# Altium integrated library Analog Devices Operational Amplifiers.IntLib: 2102 symbols (part 12 of 70)
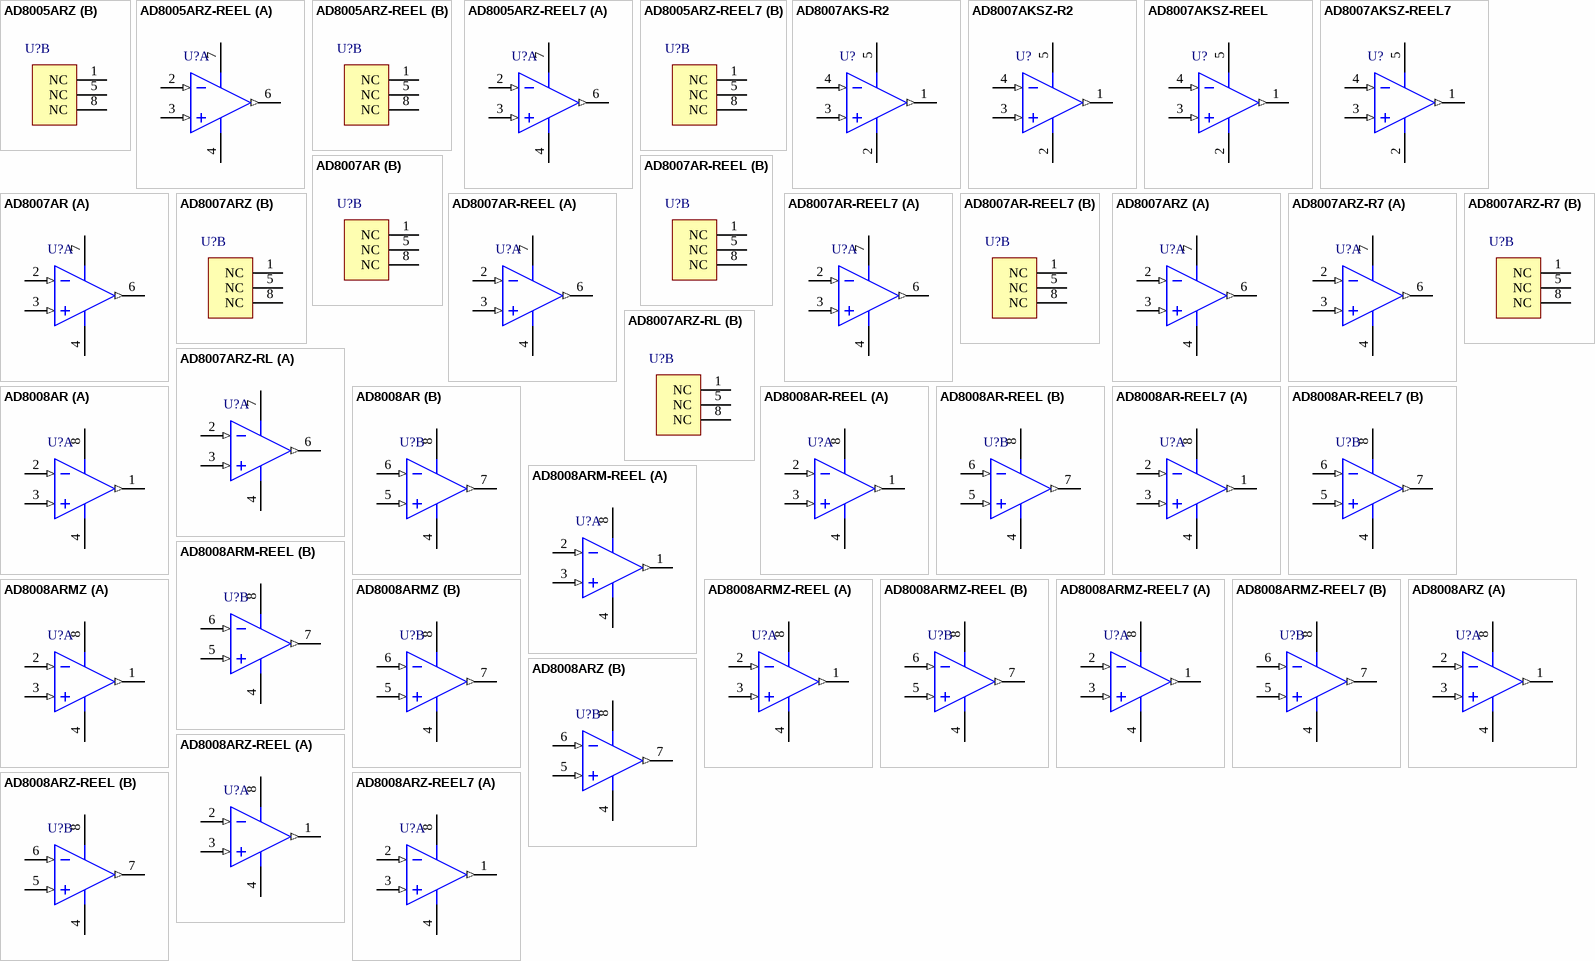
[diagram p125: symbols AD8005ARZ to AD8008ARZ-REEL7]

## AD8008AR
designator U?
Double Channel Low Power Operational Amplifier, 650 MHz BW, 1 KV/us SR, Industrial, 8-pin SOIC (R-8), Tube; Generic Part Number: AD8008; Manufacturer: Analog Devices; PartNumber: AD8008AR; Amplifiers Per Package: 2; Input Bias Current: 4uA; Input Offset Voltage: 500uV; Iq/Amp: 10.2mA; Slew Rate: 1KV/us; Small Signal Bandwidth: 650MHz; V Span Max: 12V; V Span Min: 5V; DatasheetVersion: Rev. E; PackageVersion: 060506-A; PackageReference: R-8; PackageDescription: 8-Pin Standard Small Outline Package, Body 3.9 x 4.9 mm, Pitch 1.27 mm; Supplier 1: Digi-Key; Supplier Part Number 1: AD8008AR-ND; Mounting Technology: Surface Mount; Code_JEDEC: MS-012-AA; ComponentLink1Description: Manufacturer URL; ComponentLink1URL: http://www.analog.com/en/index.html; ComponentLink2Description: Datasheet; ComponentLink2URL: http://www.analog.com/static/imported-files/data_sheets/AD8007_8008.pdf; ComponentLink3Description: Package Specification; ComponentLink3URL: http://www.analog.com/static/imported-files/packages/PKG_PDF/SOIC_Narrow%20(R)/R_8.pdf
footprint ADI-R-8_N (SOIC, 8-Leads, Body 4.9x3.9mm, Pitch 1.27mm, IPC Medium Density)
footprint ADI-R-8_L (SOIC, 8-Leads, Body 4.9x3.9mm, Pitch 1.27mm, IPC High Density)
footprint ADI-R-8_M (SOIC, 8-Leads, Body 4.9x3.9mm, Pitch 1.27mm, IPC Low Density)
pins on every part: 4 -VS (power), 8 +VS (power)
part A pins: 1 VOUT 1 (out), 2 -IN 1 (in), 3 +IN 1 (in)
part B pins: 5 +IN 2 (in), 6 -IN 2 (in), 7 VOUT 2 (out)

## AD8008AR-REEL
designator U?
Double Channel Low Power Operational Amplifier, 650 MHz BW, 1 KV/us SR, Industrial, 8-pin SOIC (R-8), Reel; Generic Part Number: AD8008; Manufacturer: Analog Devices; PartNumber: AD8008AR-REEL; Amplifiers Per Package: 2; Input Bias Current: 4uA; Input Offset Voltage: 500uV; Iq/Amp: 10.2mA; Slew Rate: 1KV/us; Small Signal Bandwidth: 650MHz; V Span Max: 12V; V Span Min: 5V; DatasheetVersion: Rev. E; PackageVersion: 060506-A; PackageReference: R-8; PackageDescription: 8-Pin Standard Small Outline Package, Body 3.9 x 4.9 mm, Pitch 1.27 mm; Supplier 1: Digi-Key; Supplier Part Number 1: AD8008AR-REEL-ND; Mounting Technology: Surface Mount; Code_JEDEC: MS-012-AA; ComponentLink1Description: Manufacturer URL; ComponentLink1URL: http://www.analog.com/en/index.html; ComponentLink2Description: Datasheet; ComponentLink2URL: http://www.analog.com/static/imported-files/data_sheets/AD8007_8008.pdf; ComponentLink3Description: Package Specification; ComponentLink3URL: http://www.analog.com/static/imported-files/packages/PKG_PDF/SOIC_Narrow%20(R)/R_8.pdf
footprint ADI-R-8_N (SOIC, 8-Leads, Body 4.9x3.9mm, Pitch 1.27mm, IPC Medium Density)
footprint ADI-R-8_L (SOIC, 8-Leads, Body 4.9x3.9mm, Pitch 1.27mm, IPC High Density)
footprint ADI-R-8_M (SOIC, 8-Leads, Body 4.9x3.9mm, Pitch 1.27mm, IPC Low Density)
pins on every part: 4 -VS (power), 8 +VS (power)
part A pins: 1 VOUT 1 (out), 2 -IN 1 (in), 3 +IN 1 (in)
part B pins: 5 +IN 2 (in), 6 -IN 2 (in), 7 VOUT 2 (out)

## AD8008AR-REEL7
designator U?
Double Channel Low Power Operational Amplifier, 650 MHz BW, 1 KV/us SR, Industrial, 8-pin SOIC (R-8), Reel; Generic Part Number: AD8008; Manufacturer: Analog Devices; PartNumber: AD8008AR-REEL7; Amplifiers Per Package: 2; Input Bias Current: 4uA; Input Offset Voltage: 500uV; Iq/Amp: 10.2mA; Slew Rate: 1KV/us; Small Signal Bandwidth: 650MHz; V Span Max: 12V; V Span Min: 5V; DatasheetVersion: Rev. E; PackageVersion: 060506-A; PackageReference: R-8; PackageDescription: 8-Pin Standard Small Outline Package, Body 3.9 x 4.9 mm, Pitch 1.27 mm; Supplier 1: Digi-Key; Supplier Part Number 1: AD8008AR-REEL7-ND; Mounting Technology: Surface Mount; Code_JEDEC: MS-012-AA; ComponentLink1Description: Manufacturer URL; ComponentLink1URL: http://www.analog.com/en/index.html; ComponentLink2Description: Datasheet; ComponentLink2URL: http://www.analog.com/static/imported-files/data_sheets/AD8007_8008.pdf; ComponentLink3Description: Package Specification; ComponentLink3URL: http://www.analog.com/static/imported-files/packages/PKG_PDF/SOIC_Narrow%20(R)/R_8.pdf
footprint ADI-R-8_N (SOIC, 8-Leads, Body 4.9x3.9mm, Pitch 1.27mm, IPC Medium Density)
footprint ADI-R-8_L (SOIC, 8-Leads, Body 4.9x3.9mm, Pitch 1.27mm, IPC High Density)
footprint ADI-R-8_M (SOIC, 8-Leads, Body 4.9x3.9mm, Pitch 1.27mm, IPC Low Density)
pins on every part: 4 -VS (power), 8 +VS (power)
part A pins: 1 VOUT 1 (out), 2 -IN 1 (in), 3 +IN 1 (in)
part B pins: 5 +IN 2 (in), 6 -IN 2 (in), 7 VOUT 2 (out)

## AD8008ARM-REEL
designator U?
Double Channel Low Power Operational Amplifier, 650 MHz BW, 1 KV/us SR, Industrial, 8-pin SOP (RM-8), Reel; Generic Part Number: AD8008; Manufacturer: Analog Devices; PartNumber: AD8008ARM-REEL; Amplifiers Per Package: 2; Input Bias Current: 4uA; Input Offset Voltage: 500uV; Iq/Amp: 10.2mA; Slew Rate: 1KV/us; Small Signal Bandwidth: 650MHz; V Span Max: 12V; V Span Min: 5V; DatasheetVersion: Rev. E; PackageReference: RM-8; PackageDescription: 8-Pin Mini Small Outline Package, Body 3 x 3 mm, Pitch 0.65 mm; Supplier 1: Digi-Key; Supplier Part Number 1: AD8008ARM-REEL-ND; Mounting Technology: Surface Mount; Code_JEDEC: MO-187-AA; ComponentLink1Description: Manufacturer URL; ComponentLink1URL: http://www.analog.com/en/index.html; ComponentLink2Description: Datasheet; ComponentLink2URL: http://www.analog.com/static/imported-files/data_sheets/AD8007_8008.pdf; ComponentLink3Description: Package Specification; ComponentLink3URL: http://www.analog.com/static/imported-files/packages/PKG_PDF/MSOP%28RM%29/RM_8.pdf
footprint ADI-RM-8_N (SOP, 8-Leads, Body 3x3mm, Pitch 0.65mm, IPC Medium Density)
footprint ADI-RM-8_L (SOP, 8-Leads, Body 3x3mm, Pitch 0.65mm, IPC High Density)
footprint ADI-RM-8_M (SOP, 8-Leads, Body 3x3mm, Pitch 0.65mm, IPC Low Density)
pins on every part: 4 -VS (power), 8 +VS (power)
part A pins: 1 VOUT 1 (out), 2 -IN 1 (in), 3 +IN 1 (in)
part B pins: 5 +IN 2 (in), 6 -IN 2 (in), 7 VOUT 2 (out)

## AD8008ARMZ
designator U?
Double Channel Low Power Operational Amplifier, 650 MHz BW, 1 KV/us SR, Industrial, 8-pin SOP (RM-8), Tube; Generic Part Number: AD8008; Manufacturer: Analog Devices; PartNumber: AD8008ARMZ; Amplifiers Per Package: 2; Input Bias Current: 4uA; Input Offset Voltage: 500uV; Iq/Amp: 10.2mA; Slew Rate: 1KV/us; Small Signal Bandwidth: 650MHz; V Span Max: 12V; V Span Min: 5V; DatasheetVersion: Rev. E; PackageReference: RM-8; PackageDescription: 8-Pin Mini Small Outline Package, Body 3 x 3 mm, Pitch 0.65 mm; Supplier 1: Digi-Key; Supplier Part Number 1: AD8008ARMZ-ND; Supplier 2: Newark; Supplier Part Number 2: 59K6160; Mounting Technology: Surface Mount; Code_JEDEC: MO-187-AA; ComponentLink1Description: Manufacturer URL; ComponentLink1URL: http://www.analog.com/en/index.html; ComponentLink2Description: Datasheet; ComponentLink2URL: http://www.analog.com/static/imported-files/data_sheets/AD8007_8008.pdf; ComponentLink3Description: Package Specification; ComponentLink3URL: http://www.analog.com/static/imported-files/packages/PKG_PDF/MSOP%28RM%29/RM_8.pdf
footprint ADI-RM-8_N (SOP, 8-Leads, Body 3x3mm, Pitch 0.65mm, IPC Medium Density)
footprint ADI-RM-8_L (SOP, 8-Leads, Body 3x3mm, Pitch 0.65mm, IPC High Density)
footprint ADI-RM-8_M (SOP, 8-Leads, Body 3x3mm, Pitch 0.65mm, IPC Low Density)
pins on every part: 4 -VS (power), 8 +VS (power)
part A pins: 1 VOUT 1 (out), 2 -IN 1 (in), 3 +IN 1 (in)
part B pins: 5 +IN 2 (in), 6 -IN 2 (in), 7 VOUT 2 (out)

## AD8008ARMZ-REEL
designator U?
Double Channel Low Power Operational Amplifier, 650 MHz BW, 1 KV/us SR, Industrial, 8-pin SOP (RM-8), Reel; Generic Part Number: AD8008; Manufacturer: Analog Devices; PartNumber: AD8008ARMZ-REEL; Amplifiers Per Package: 2; Input Bias Current: 4uA; Input Offset Voltage: 500uV; Iq/Amp: 10.2mA; Slew Rate: 1KV/us; Small Signal Bandwidth: 650MHz; V Span Max: 12V; V Span Min: 5V; DatasheetVersion: Rev. E; PackageReference: RM-8; PackageDescription: 8-Pin Mini Small Outline Package, Body 3 x 3 mm, Pitch 0.65 mm; Supplier 1: Digi-Key; Supplier Part Number 1: AD8008ARMZ-REEL-ND; Mounting Technology: Surface Mount; Code_JEDEC: MO-187-AA; ComponentLink1Description: Manufacturer URL; ComponentLink1URL: http://www.analog.com/en/index.html; ComponentLink2Description: Datasheet; ComponentLink2URL: http://www.analog.com/static/imported-files/data_sheets/AD8007_8008.pdf; ComponentLink3Description: Package Specification; ComponentLink3URL: http://www.analog.com/static/imported-files/packages/PKG_PDF/MSOP%28RM%29/RM_8.pdf
footprint ADI-RM-8_N (SOP, 8-Leads, Body 3x3mm, Pitch 0.65mm, IPC Medium Density)
footprint ADI-RM-8_L (SOP, 8-Leads, Body 3x3mm, Pitch 0.65mm, IPC High Density)
footprint ADI-RM-8_M (SOP, 8-Leads, Body 3x3mm, Pitch 0.65mm, IPC Low Density)
pins on every part: 4 -VS (power), 8 +VS (power)
part A pins: 1 VOUT 1 (out), 2 -IN 1 (in), 3 +IN 1 (in)
part B pins: 5 +IN 2 (in), 6 -IN 2 (in), 7 VOUT 2 (out)

## AD8008ARMZ-REEL7
designator U?
Double Channel Low Power Operational Amplifier, 650 MHz BW, 1 KV/us SR, Industrial, 8-pin SOP (RM-8), Reel; Generic Part Number: AD8008; Manufacturer: Analog Devices; PartNumber: AD8008ARMZ-REEL7; Amplifiers Per Package: 2; Input Bias Current: 4uA; Input Offset Voltage: 500uV; Iq/Amp: 10.2mA; Slew Rate: 1KV/us; Small Signal Bandwidth: 650MHz; V Span Max: 12V; V Span Min: 5V; DatasheetVersion: Rev. E; PackageReference: RM-8; PackageDescription: 8-Pin Mini Small Outline Package, Body 3 x 3 mm, Pitch 0.65 mm; Supplier 1: Digi-Key; Supplier Part Number 1: AD8008ARMZ-REEL7-ND; Mounting Technology: Surface Mount; Code_JEDEC: MO-187-AA; ComponentLink1Description: Manufacturer URL; ComponentLink1URL: http://www.analog.com/en/index.html; ComponentLink2Description: Datasheet; ComponentLink2URL: http://www.analog.com/static/imported-files/data_sheets/AD8007_8008.pdf; ComponentLink3Description: Package Specification; ComponentLink3URL: http://www.analog.com/static/imported-files/packages/PKG_PDF/MSOP%28RM%29/RM_8.pdf
footprint ADI-RM-8_N (SOP, 8-Leads, Body 3x3mm, Pitch 0.65mm, IPC Medium Density)
footprint ADI-RM-8_L (SOP, 8-Leads, Body 3x3mm, Pitch 0.65mm, IPC High Density)
footprint ADI-RM-8_M (SOP, 8-Leads, Body 3x3mm, Pitch 0.65mm, IPC Low Density)
pins on every part: 4 -VS (power), 8 +VS (power)
part A pins: 1 VOUT 1 (out), 2 -IN 1 (in), 3 +IN 1 (in)
part B pins: 5 +IN 2 (in), 6 -IN 2 (in), 7 VOUT 2 (out)

## AD8008ARZ
designator U?
Double Channel Low Power Operational Amplifier, 650 MHz BW, 1 KV/us SR, Industrial, 8-pin SOIC (R-8), Tube; Generic Part Number: AD8008; Manufacturer: Analog Devices; PartNumber: AD8008ARZ; Amplifiers Per Package: 2; Input Bias Current: 4uA; Input Offset Voltage: 500uV; Iq/Amp: 10.2mA; Slew Rate: 1KV/us; Small Signal Bandwidth: 650MHz; V Span Max: 12V; V Span Min: 5V; DatasheetVersion: Rev. E; PackageVersion: 060506-A; PackageReference: R-8; PackageDescription: 8-Pin Standard Small Outline Package, Body 3.9 x 4.9 mm, Pitch 1.27 mm; Supplier 1: Digi-Key; Supplier Part Number 1: AD8008ARZ-ND; Supplier 2: Farnell; Supplier Part Number 2: 8621470; Supplier 3: Newark; Supplier Part Number 3: 19M0913; Mounting Technology: Surface Mount; Code_JEDEC: MS-012-AA; ComponentLink1Description: Manufacturer URL; ComponentLink1URL: http://www.analog.com/en/index.html; ComponentLink2Description: Datasheet; ComponentLink2URL: http://www.analog.com/static/imported-files/data_sheets/AD8007_8008.pdf; ComponentLink3Description: Package Specification; ComponentLink3URL: http://www.analog.com/static/imported-files/packages/PKG_PDF/SOIC_Narrow%20(R)/R_8.pdf
footprint ADI-R-8_N (SOIC, 8-Leads, Body 4.9x3.9mm, Pitch 1.27mm, IPC Medium Density)
footprint ADI-R-8_L (SOIC, 8-Leads, Body 4.9x3.9mm, Pitch 1.27mm, IPC High Density)
footprint ADI-R-8_M (SOIC, 8-Leads, Body 4.9x3.9mm, Pitch 1.27mm, IPC Low Density)
pins on every part: 4 -VS (power), 8 +VS (power)
part A pins: 1 VOUT 1 (out), 2 -IN 1 (in), 3 +IN 1 (in)
part B pins: 5 +IN 2 (in), 6 -IN 2 (in), 7 VOUT 2 (out)

## AD8008ARZ-REEL
designator U?
Double Channel Low Power Operational Amplifier, 650 MHz BW, 1 KV/us SR, Industrial, 8-pin SOIC (R-8), Reel; Generic Part Number: AD8008; Manufacturer: Analog Devices; PartNumber: AD8008ARZ-REEL; Amplifiers Per Package: 2; Input Bias Current: 4uA; Input Offset Voltage: 500uV; Iq/Amp: 10.2mA; Slew Rate: 1KV/us; Small Signal Bandwidth: 650MHz; V Span Max: 12V; V Span Min: 5V; DatasheetVersion: Rev. E; PackageVersion: 060506-A; PackageReference: R-8; PackageDescription: 8-Pin Standard Small Outline Package, Body 3.9 x 4.9 mm, Pitch 1.27 mm; Supplier 1: Digi-Key; Supplier Part Number 1: AD8008ARZ-REEL-ND; Mounting Technology: Surface Mount; Code_JEDEC: MS-012-AA; ComponentLink1Description: Manufacturer URL; ComponentLink1URL: http://www.analog.com/en/index.html; ComponentLink2Description: Datasheet; ComponentLink2URL: http://www.analog.com/static/imported-files/data_sheets/AD8007_8008.pdf; ComponentLink3Description: Package Specification; ComponentLink3URL: http://www.analog.com/static/imported-files/packages/PKG_PDF/SOIC_Narrow%20(R)/R_8.pdf
footprint ADI-R-8_N (SOIC, 8-Leads, Body 4.9x3.9mm, Pitch 1.27mm, IPC Medium Density)
footprint ADI-R-8_L (SOIC, 8-Leads, Body 4.9x3.9mm, Pitch 1.27mm, IPC High Density)
footprint ADI-R-8_M (SOIC, 8-Leads, Body 4.9x3.9mm, Pitch 1.27mm, IPC Low Density)
pins on every part: 4 -VS (power), 8 +VS (power)
part A pins: 1 VOUT 1 (out), 2 -IN 1 (in), 3 +IN 1 (in)
part B pins: 5 +IN 2 (in), 6 -IN 2 (in), 7 VOUT 2 (out)

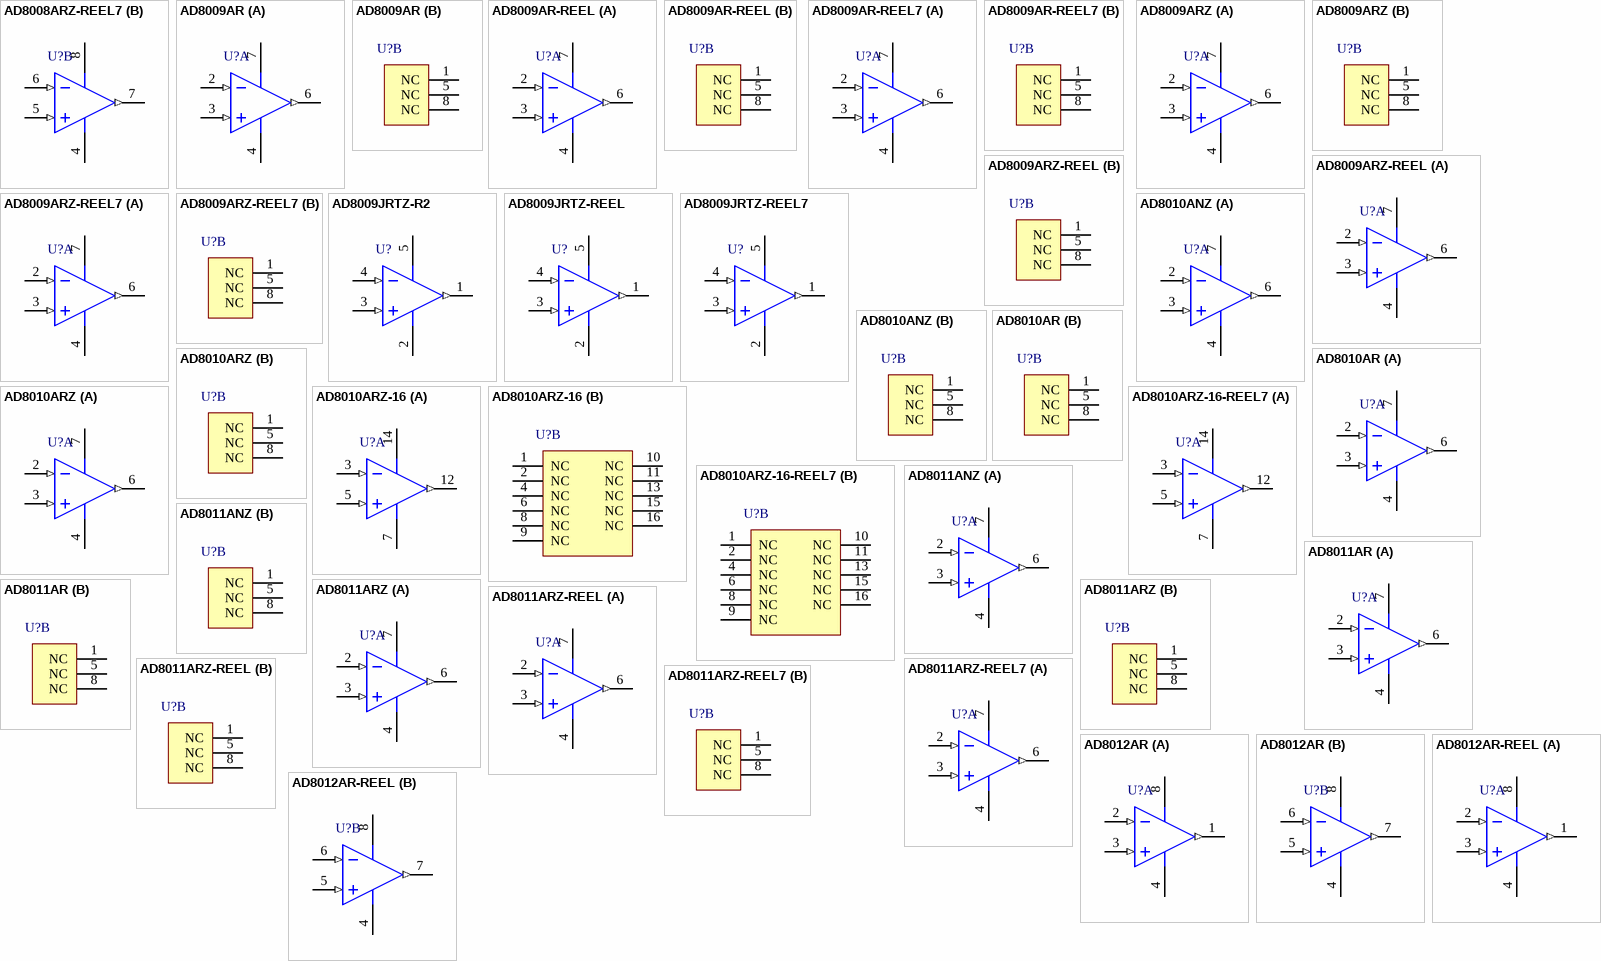
[diagram p18: symbols AD8008ARZ-REEL7 to AD8012AR-REEL]

## AD8008ARZ-REEL7
designator U?
Double Channel Low Power Operational Amplifier, 650 MHz BW, 1 KV/us SR, Industrial, 8-pin SOIC (R-8), Reel; Generic Part Number: AD8008; Manufacturer: Analog Devices; PartNumber: AD8008ARZ-REEL7; Amplifiers Per Package: 2; Input Bias Current: 4uA; Input Offset Voltage: 500uV; Iq/Amp: 10.2mA; Slew Rate: 1KV/us; Small Signal Bandwidth: 650MHz; V Span Max: 12V; V Span Min: 5V; DatasheetVersion: Rev. E; PackageVersion: 060506-A; PackageReference: R-8; PackageDescription: 8-Pin Standard Small Outline Package, Body 3.9 x 4.9 mm, Pitch 1.27 mm; Supplier 1: Digi-Key; Supplier Part Number 1: AD8008ARZ-REEL7-ND; Mounting Technology: Surface Mount; Code_JEDEC: MS-012-AA; ComponentLink1Description: Manufacturer URL; ComponentLink1URL: http://www.analog.com/en/index.html; ComponentLink2Description: Datasheet; ComponentLink2URL: http://www.analog.com/static/imported-files/data_sheets/AD8007_8008.pdf; ComponentLink3Description: Package Specification; ComponentLink3URL: http://www.analog.com/static/imported-files/packages/PKG_PDF/SOIC_Narrow%20(R)/R_8.pdf
footprint ADI-R-8_N (SOIC, 8-Leads, Body 4.9x3.9mm, Pitch 1.27mm, IPC Medium Density)
footprint ADI-R-8_L (SOIC, 8-Leads, Body 4.9x3.9mm, Pitch 1.27mm, IPC High Density)
footprint ADI-R-8_M (SOIC, 8-Leads, Body 4.9x3.9mm, Pitch 1.27mm, IPC Low Density)
pins on every part: 4 -VS (power), 8 +VS (power)
part A pins: 1 VOUT 1 (out), 2 -IN 1 (in), 3 +IN 1 (in)
part B pins: 5 +IN 2 (in), 6 -IN 2 (in), 7 VOUT 2 (out)

## AD8009AR
designator U?
Single Channel Wide Bandwidth Operational Amplifier, 1 GHz BW, 5.5 KV/us SR, Industrial, 8-pin SOIC (R-8), Tube; Generic Part Number: AD8009; Manufacturer: Analog Devices; PartNumber: AD8009AR; Amplifiers Per Package: 1; Input Bias Current: 50uA; Input Offset Voltage: 2mV; Iq/Amp: 16mA; Small Signal Bandwidth: 1GHz; V Span Max: 12V; V Span Min: 5V; DatasheetVersion: Rev. F; PackageVersion: 060506-A; PackageReference: R-8; PackageDescription: 8-Pin Standard Small Outline Package, Body 3.9 x 4.9 mm, Pitch 1.27 mm; Supplier 1: Digi-Key; Supplier Part Number 1: AD8009AR-ND; Packing: Tube; Slew Rate: 5.5KV/us; Mounting Technology: Surface Mount; Code_JEDEC: MS-012-AA; ComponentLink1Description: Manufacturer URL; ComponentLink1URL: http://www.analog.com/en/index.html; ComponentLink2Description: Datasheet; ComponentLink2URL: http://www.analog.com/static/imported-files/data_sheets/AD8009.pdf; ComponentLink3Description: Package Specification; ComponentLink3URL: http://www.analog.com/static/imported-files/packages/PKG_PDF/SOIC_Narrow%20(R)/R_8.pdf
footprint ADI-R-8_N (SOIC, 8-Leads, Body 4.9x3.9mm, Pitch 1.27mm, IPC Medium Density)
footprint ADI-R-8_L (SOIC, 8-Leads, Body 4.9x3.9mm, Pitch 1.27mm, IPC High Density)
footprint ADI-R-8_M (SOIC, 8-Leads, Body 4.9x3.9mm, Pitch 1.27mm, IPC Low Density)
part A pins: 2 -IN (in), 3 +IN (in), 4 -VS (power), 6 OUT (out), 7 +VS (power)
part B pins: 1 NC, 5 NC, 8 NC

## AD8009AR-REEL
designator U?
Single Channel Wide Bandwidth Operational Amplifier, 1 GHz BW, 5.5 KV/us SR, Industrial, 8-pin SOIC (R-8), Reel; Generic Part Number: AD8009; Manufacturer: Analog Devices; PartNumber: AD8009AR-REEL; Amplifiers Per Package: 1; Input Bias Current: 50uA; Input Offset Voltage: 2mV; Iq/Amp: 16mA; Small Signal Bandwidth: 1GHz; V Span Max: 12V; V Span Min: 5V; DatasheetVersion: Rev. F; PackageVersion: 060506-A; PackageReference: R-8; PackageDescription: 8-Pin Standard Small Outline Package, Body 3.9 x 4.9 mm, Pitch 1.27 mm; Supplier 1: Digi-Key; Supplier Part Number 1: AD8009AR-REEL-ND; Supplier 2: Newark; Supplier Part Number 2: 09B6335; Packing: Reel; Slew Rate: 5.5KV/us; Mounting Technology: Surface Mount; Code_JEDEC: MS-012-AA; ComponentLink1Description: Manufacturer URL; ComponentLink1URL: http://www.analog.com/en/index.html; ComponentLink2Description: Datasheet; ComponentLink2URL: http://www.analog.com/static/imported-files/data_sheets/AD8009.pdf; ComponentLink3Description: Package Specification; ComponentLink3URL: http://www.analog.com/static/imported-files/packages/PKG_PDF/SOIC_Narrow%20(R)/R_8.pdf
footprint ADI-R-8_N (SOIC, 8-Leads, Body 4.9x3.9mm, Pitch 1.27mm, IPC Medium Density)
footprint ADI-R-8_L (SOIC, 8-Leads, Body 4.9x3.9mm, Pitch 1.27mm, IPC High Density)
footprint ADI-R-8_M (SOIC, 8-Leads, Body 4.9x3.9mm, Pitch 1.27mm, IPC Low Density)
part A pins: 2 -IN (in), 3 +IN (in), 4 -VS (power), 6 OUT (out), 7 +VS (power)
part B pins: 1 NC, 5 NC, 8 NC

## AD8009AR-REEL7
designator U?
Single Channel Wide Bandwidth Operational Amplifier, 1 GHz BW, 5.5 KV/us SR, Industrial, 8-pin SOIC (R-8), Reel; Generic Part Number: AD8009; Manufacturer: Analog Devices; PartNumber: AD8009AR-REEL7; Amplifiers Per Package: 1; Input Bias Current: 50uA; Input Offset Voltage: 2mV; Iq/Amp: 16mA; Small Signal Bandwidth: 1GHz; V Span Max: 12V; V Span Min: 5V; DatasheetVersion: Rev. F; PackageVersion: 060506-A; PackageReference: R-8; PackageDescription: 8-Pin Standard Small Outline Package, Body 3.9 x 4.9 mm, Pitch 1.27 mm; Supplier 1: Digi-Key; Supplier Part Number 1: AD8009AR-REEL7TR-ND; Supplier 2: Digi-Key; Supplier Part Number 2: AD8009AR-REEL7CT-ND; Supplier 3: Digi-Key; Supplier Part Number 3: AD8009AR-REEL7DKR-ND; Supplier 4: Newark; Supplier Part Number 4: 09B6336; Packing: Reel; Slew Rate: 5.5KV/us; Mounting Technology: Surface Mount; Code_JEDEC: MS-012-AA; ComponentLink1Description: Manufacturer URL; ComponentLink1URL: http://www.analog.com/en/index.html; ComponentLink2Description: Datasheet; ComponentLink2URL: http://www.analog.com/static/imported-files/data_sheets/AD8009.pdf; ComponentLink3Description: Package Specification; ComponentLink3URL: http://www.analog.com/static/imported-files/packages/PKG_PDF/SOIC_Narrow%20(R)/R_8.pdf
footprint ADI-R-8_N (SOIC, 8-Leads, Body 4.9x3.9mm, Pitch 1.27mm, IPC Medium Density)
footprint ADI-R-8_L (SOIC, 8-Leads, Body 4.9x3.9mm, Pitch 1.27mm, IPC High Density)
footprint ADI-R-8_M (SOIC, 8-Leads, Body 4.9x3.9mm, Pitch 1.27mm, IPC Low Density)
part A pins: 2 -IN (in), 3 +IN (in), 4 -VS (power), 6 OUT (out), 7 +VS (power)
part B pins: 1 NC, 5 NC, 8 NC

## AD8009ARZ
designator U?
Single Channel Wide Bandwidth Operational Amplifier, 1 GHz BW, 5.5 KV/us SR, Industrial, 8-pin SOIC (R-8), Tube; Generic Part Number: AD8009; Manufacturer: Analog Devices; PartNumber: AD8009ARZ; Amplifiers Per Package: 1; Input Bias Current: 50uA; Input Offset Voltage: 2mV; Iq/Amp: 16mA; Small Signal Bandwidth: 1GHz; V Span Max: 12V; V Span Min: 5V; DatasheetVersion: Rev. F; PackageVersion: 060506-A; PackageReference: R-8; PackageDescription: 8-Pin Standard Small Outline Package, Body 3.9 x 4.9 mm, Pitch 1.27 mm; Supplier 1: Digi-Key; Supplier Part Number 1: AD8009ARZ-ND; Supplier 2: Farnell; Supplier Part Number 2: 1660970; Supplier 3: Newark; Supplier Part Number 3: 41K1257; Packing: Tube; Slew Rate: 5.5KV/us; Mounting Technology: Surface Mount; Code_JEDEC: MS-012-AA; ComponentLink1Description: Manufacturer URL; ComponentLink1URL: http://www.analog.com/en/index.html; ComponentLink2Description: Datasheet; ComponentLink2URL: http://www.analog.com/static/imported-files/data_sheets/AD8009.pdf; ComponentLink3Description: Package Specification; ComponentLink3URL: http://www.analog.com/static/imported-files/packages/PKG_PDF/SOIC_Narrow%20(R)/R_8.pdf
footprint ADI-R-8_N (SOIC, 8-Leads, Body 4.9x3.9mm, Pitch 1.27mm, IPC Medium Density)
footprint ADI-R-8_L (SOIC, 8-Leads, Body 4.9x3.9mm, Pitch 1.27mm, IPC High Density)
footprint ADI-R-8_M (SOIC, 8-Leads, Body 4.9x3.9mm, Pitch 1.27mm, IPC Low Density)
part A pins: 2 -IN (in), 3 +IN (in), 4 -VS (power), 6 OUT (out), 7 +VS (power)
part B pins: 1 NC, 5 NC, 8 NC

## AD8009ARZ-REEL
designator U?
Single Channel Wide Bandwidth Operational Amplifier, 1 GHz BW, 5.5 KV/us SR, Industrial, 8-pin SOIC (R-8), Reel; Generic Part Number: AD8009; Manufacturer: Analog Devices; PartNumber: AD8009ARZ-REEL; Amplifiers Per Package: 1; Input Bias Current: 50uA; Input Offset Voltage: 2mV; Iq/Amp: 16mA; Small Signal Bandwidth: 1GHz; V Span Max: 12V; V Span Min: 5V; DatasheetVersion: Rev. F; PackageVersion: 060506-A; PackageReference: R-8; PackageDescription: 8-Pin Standard Small Outline Package, Body 3.9 x 4.9 mm, Pitch 1.27 mm; Supplier 1: Digi-Key; Supplier Part Number 1: AD8009ARZ-REEL-ND; Supplier 2: Newark; Supplier Part Number 2: 59K6166; Packing: Reel; Slew Rate: 5.5KV/us; Mounting Technology: Surface Mount; Code_JEDEC: MS-012-AA; ComponentLink1Description: Manufacturer URL; ComponentLink1URL: http://www.analog.com/en/index.html; ComponentLink2Description: Datasheet; ComponentLink2URL: http://www.analog.com/static/imported-files/data_sheets/AD8009.pdf; ComponentLink3Description: Package Specification; ComponentLink3URL: http://www.analog.com/static/imported-files/packages/PKG_PDF/SOIC_Narrow%20(R)/R_8.pdf
footprint ADI-R-8_N (SOIC, 8-Leads, Body 4.9x3.9mm, Pitch 1.27mm, IPC Medium Density)
footprint ADI-R-8_L (SOIC, 8-Leads, Body 4.9x3.9mm, Pitch 1.27mm, IPC High Density)
footprint ADI-R-8_M (SOIC, 8-Leads, Body 4.9x3.9mm, Pitch 1.27mm, IPC Low Density)
part A pins: 2 -IN (in), 3 +IN (in), 4 -VS (power), 6 OUT (out), 7 +VS (power)
part B pins: 1 NC, 5 NC, 8 NC

## AD8009ARZ-REEL7
designator U?
Single Channel Wide Bandwidth Operational Amplifier, 1 GHz BW, 5.5 KV/us SR, Industrial, 8-pin SOIC (R-8), Reel; Generic Part Number: AD8009; Manufacturer: Analog Devices; PartNumber: AD8009ARZ-REEL7; Amplifiers Per Package: 1; Input Bias Current: 50uA; Input Offset Voltage: 2mV; Iq/Amp: 16mA; Small Signal Bandwidth: 1GHz; V Span Max: 12V; V Span Min: 5V; DatasheetVersion: Rev. F; PackageVersion: 060506-A; PackageReference: R-8; PackageDescription: 8-Pin Standard Small Outline Package, Body 3.9 x 4.9 mm, Pitch 1.27 mm; Supplier 1: Digi-Key; Supplier Part Number 1: AD8009ARZ-REEL7-ND; Supplier 2: Newark; Supplier Part Number 2: 59K6167; Packing: Reel; Slew Rate: 5.5KV/us; Mounting Technology: Surface Mount; Code_JEDEC: MS-012-AA; ComponentLink1Description: Manufacturer URL; ComponentLink1URL: http://www.analog.com/en/index.html; ComponentLink2Description: Datasheet; ComponentLink2URL: http://www.analog.com/static/imported-files/data_sheets/AD8009.pdf; ComponentLink3Description: Package Specification; ComponentLink3URL: http://www.analog.com/static/imported-files/packages/PKG_PDF/SOIC_Narrow%20(R)/R_8.pdf
footprint ADI-R-8_N (SOIC, 8-Leads, Body 4.9x3.9mm, Pitch 1.27mm, IPC Medium Density)
footprint ADI-R-8_L (SOIC, 8-Leads, Body 4.9x3.9mm, Pitch 1.27mm, IPC High Density)
footprint ADI-R-8_M (SOIC, 8-Leads, Body 4.9x3.9mm, Pitch 1.27mm, IPC Low Density)
part A pins: 2 -IN (in), 3 +IN (in), 4 -VS (power), 6 OUT (out), 7 +VS (power)
part B pins: 1 NC, 5 NC, 8 NC

## AD8009JRTZ-R2
designator U?
Single Channel Wide Bandwidth Operational Amplifier, 1 GHz BW, 5.5 KV/us SR, Commercial, 5-pin SOT23 (RJ-5), Reel; Generic Part Number: AD8009; Manufacturer: Analog Devices; PartNumber: AD8009JRTZ-R2; Amplifiers Per Package: 1; Input Bias Current: 50uA; Input Offset Voltage: 2mV; Iq/Amp: 16mA; Small Signal Bandwidth: 1GHz; V Span Max: 12V; V Span Min: 5V; DatasheetVersion: Rev. F; PackageVersion: 121608-A; PackageReference: RJ-5; PackageDescription: 5-Pin Small Outline Transistor Package, Body 2.9 x 1.6 mm, Pitch 0.95 mm; Supplier 1: Digi-Key; Supplier Part Number 1: AD8009JRTZ-R2CT-ND; Supplier 2: Farnell; Supplier Part Number 2: 1651269; Supplier 3: Farnell; Supplier Part Number 3: 1651269RL; Supplier 4: Newark; Supplier Part Number 4: 19M8868; Packing: Reel; Slew Rate: 5.5KV/us; Mounting Technology: Surface Mount; Code_JEDEC: MO-178-AA; ComponentLink1Description: Manufacturer URL; ComponentLink1URL: http://www.analog.com/en/index.html; ComponentLink2Description: Datasheet; ComponentLink2URL: http://www.analog.com/static/imported-files/data_sheets/AD8009.pdf; ComponentLink3Description: Package Specification; ComponentLink3URL: http://www.analog.com/static/imported-files/packages/PKG_PDF/SOT-23(RJ)/RJ_5.pdf
footprint ADI-RJ-5_N (SOT-23, 5-Leads, Body 2.9x1.6mm, Pitch 0.95mm, IPC Medium Density)
footprint ADI-RJ-5_L (SOT-23, 5-Leads, Body 2.9x1.6mm, Pitch 0.95mm, IPC High Density)
footprint ADI-RJ-5_M (SOT-23, 5-Leads, Body 2.9x1.6mm, Pitch 0.95mm, IPC Low Density)
pins: 1 VOUT (out), 2 -VS (power), 3 +IN (in), 4 -IN (in), 5 +VS (power)

## AD8009JRTZ-REEL
designator U?
Single Channel Wide Bandwidth Operational Amplifier, 1 GHz BW, 5.5 KV/us SR, Commercial, 5-pin SOT23 (RJ-5), Reel; Generic Part Number: AD8009; Manufacturer: Analog Devices; PartNumber: AD8009JRTZ-REEL; Amplifiers Per Package: 1; Input Bias Current: 50uA; Input Offset Voltage: 2mV; Iq/Amp: 16mA; Small Signal Bandwidth: 1GHz; V Span Max: 12V; V Span Min: 5V; DatasheetVersion: Rev. F; PackageVersion: 121608-A; PackageReference: RJ-5; PackageDescription: 5-Pin Small Outline Transistor Package, Body 2.9 x 1.6 mm, Pitch 0.95 mm; Supplier 1: Digi-Key; Supplier Part Number 1: AD8009JRTZ-REEL-ND; Packing: Reel; Slew Rate: 5.5KV/us; Mounting Technology: Surface Mount; Code_JEDEC: MO-178-AA; ComponentLink1Description: Manufacturer URL; ComponentLink1URL: http://www.analog.com/en/index.html; ComponentLink2Description: Datasheet; ComponentLink2URL: http://www.analog.com/static/imported-files/data_sheets/AD8009.pdf; ComponentLink3Description: Package Specification; ComponentLink3URL: http://www.analog.com/static/imported-files/packages/PKG_PDF/SOT-23(RJ)/RJ_5.pdf
footprint ADI-RJ-5_N (SOT-23, 5-Leads, Body 2.9x1.6mm, Pitch 0.95mm, IPC Medium Density)
footprint ADI-RJ-5_L (SOT-23, 5-Leads, Body 2.9x1.6mm, Pitch 0.95mm, IPC High Density)
footprint ADI-RJ-5_M (SOT-23, 5-Leads, Body 2.9x1.6mm, Pitch 0.95mm, IPC Low Density)
pins: 1 VOUT (out), 2 -VS (power), 3 +IN (in), 4 -IN (in), 5 +VS (power)

## AD8009JRTZ-REEL7
designator U?
Single Channel Wide Bandwidth Operational Amplifier, 1 GHz BW, 5.5 KV/us SR, Commercial, 5-pin SOT23 (RJ-5), Reel; Generic Part Number: AD8009; Manufacturer: Analog Devices; PartNumber: AD8009JRTZ-REEL7; Amplifiers Per Package: 1; Input Bias Current: 50uA; Input Offset Voltage: 2mV; Iq/Amp: 16mA; Small Signal Bandwidth: 1GHz; V Span Max: 12V; V Span Min: 5V; DatasheetVersion: Rev. F; PackageVersion: 121608-A; PackageReference: RJ-5; PackageDescription: 5-Pin Small Outline Transistor Package, Body 2.9 x 1.6 mm, Pitch 0.95 mm; Supplier 1: Digi-Key; Supplier Part Number 1: AD8009JRTZ-REEL7TR-ND; Supplier 2: Digi-Key; Supplier Part Number 2: AD8009JRTZ-REEL7CT-ND; Supplier 3: Digi-Key; Supplier Part Number 3: AD8009JRTZ-REEL7DKR-ND; Supplier 4: Newark; Supplier Part Number 4: 59K6169; Packing: Reel; Slew Rate: 5.5KV/us; Mounting Technology: Surface Mount; Code_JEDEC: MO-178-AA; ComponentLink1Description: Manufacturer URL; ComponentLink1URL: http://www.analog.com/en/index.html; ComponentLink2Description: Datasheet; ComponentLink2URL: http://www.analog.com/static/imported-files/data_sheets/AD8009.pdf; ComponentLink3Description: Package Specification; ComponentLink3URL: http://www.analog.com/static/imported-files/packages/PKG_PDF/SOT-23(RJ)/RJ_5.pdf
footprint ADI-RJ-5_N (SOT-23, 5-Leads, Body 2.9x1.6mm, Pitch 0.95mm, IPC Medium Density)
footprint ADI-RJ-5_L (SOT-23, 5-Leads, Body 2.9x1.6mm, Pitch 0.95mm, IPC High Density)
footprint ADI-RJ-5_M (SOT-23, 5-Leads, Body 2.9x1.6mm, Pitch 0.95mm, IPC Low Density)
pins: 1 VOUT (out), 2 -VS (power), 3 +IN (in), 4 -IN (in), 5 +VS (power)

## AD8010ANZ
designator U?
Single Channel Operational Amplifier, 230 MHz BW, 800 V/us SR, Industrial, 8-pin DIP (N-8), Tube; Generic Part Number: AD8010; Manufacturer: Analog Devices; PartNumber: AD8010ANZ; Amplifiers Per Package: 1; Input Bias Current: 6uA; Input Offset Voltage: 5mV; Iq/Amp: 17mA; Small Signal Bandwidth: 230MHz; V Span Max: 12V; V Span Min: 9V; DatasheetVersion: Rev. B; PackageVersion: 070606-A; PackageReference: N-8; PackageDescription: 8-Pin Plastic Dual In-Line Package, Row spacing 7.62 mm, Pitch 2.54 mm; Supplier 1: Digi-Key; Supplier Part Number 1: AD8010ANZ-ND; Supplier 2: Farnell; Supplier Part Number 2: 1079306; Supplier 3: Newark; Supplier Part Number 3: 31M4437; Slew Rate: 800V/us; Mounting Technology: Through Hole; Code_JEDEC: MS-001; ComponentLink1Description: Manufacturer URL; ComponentLink1URL: http://www.analog.com/en/index.html; ComponentLink2Description: Datasheet; ComponentLink2URL: http://www.analog.com/static/imported-files/data_sheets/AD8010.pdf; ComponentLink3Description: Package Specification; ComponentLink3URL: http:/www.analog.com/static/imported-files/packages/PKG_PDF/PDIP(N)/N_8.pdf
footprint ADI-N-8 (DIP, 8-Leads, Body 9.59x6.6mm, Pitch 2.54mm)
part A pins: 2 -IN (in), 3 +IN (in), 4 -VS (power), 6 OUT (out), 7 +VS (power)
part B pins: 1 NC, 5 NC, 8 NC

## AD8010AR
designator U?
Single Channel Operational Amplifier, 230 MHz BW, 800 V/us SR, Industrial, 8-pin SOIC (R-8), Tube; Generic Part Number: AD8010; Manufacturer: Analog Devices; PartNumber: AD8010AR; Amplifiers Per Package: 1; Input Bias Current: 6uA; Input Offset Voltage: 5mV; Iq/Amp: 17mA; Small Signal Bandwidth: 230MHz; V Span Max: 12V; V Span Min: 9V; DatasheetVersion: Rev. B; PackageVersion: 060506-A; PackageReference: R-8; PackageDescription: 8-Pin Standard Small Outline Package, Body 3.9 x 4.9 mm, Pitch 1.27 mm; Supplier 1: Digi-Key; Supplier Part Number 1: AD8010AR-ND; Slew Rate: 800V/us; Mounting Technology: Surface Mount; Code_JEDEC: MS-012-AA; ComponentLink1Description: Manufacturer URL; ComponentLink1URL: http://www.analog.com/en/index.html; ComponentLink2Description: Datasheet; ComponentLink2URL: http://www.analog.com/static/imported-files/data_sheets/AD8010.pdf; ComponentLink3Description: Package Specification; ComponentLink3URL: http://www.analog.com/static/imported-files/packages/PKG_PDF/SOIC_Narrow%20(R)/R_8.pdf
footprint ADI-R-8_N (SOIC, 8-Leads, Body 4.9x3.9mm, Pitch 1.27mm, IPC Medium Density)
footprint ADI-R-8_L (SOIC, 8-Leads, Body 4.9x3.9mm, Pitch 1.27mm, IPC High Density)
footprint ADI-R-8_M (SOIC, 8-Leads, Body 4.9x3.9mm, Pitch 1.27mm, IPC Low Density)
part A pins: 2 -IN (in), 3 +IN (in), 4 -VS (power), 6 OUT (out), 7 +VS (power)
part B pins: 1 NC, 5 NC, 8 NC

## AD8010ARZ
designator U?
Single Channel Operational Amplifier, 230 MHz BW, 800 V/us SR, Industrial, 8-pin SOIC (R-8), Tube; Generic Part Number: AD8010; Manufacturer: Analog Devices; PartNumber: AD8010ARZ; Amplifiers Per Package: 1; Input Bias Current: 6uA; Input Offset Voltage: 5mV; Iq/Amp: 17mA; Small Signal Bandwidth: 230MHz; V Span Max: 12V; V Span Min: 9V; DatasheetVersion: Rev. B; PackageVersion: 060506-A; PackageReference: R-8; PackageDescription: 8-Pin Standard Small Outline Package, Body 3.9 x 4.9 mm, Pitch 1.27 mm; Supplier 1: Digi-Key; Supplier Part Number 1: AD8010ARZ-ND; Supplier 2: Newark; Supplier Part Number 2: 12M9026; Slew Rate: 800V/us; Mounting Technology: Surface Mount; Code_JEDEC: MS-012-AA; ComponentLink1Description: Manufacturer URL; ComponentLink1URL: http://www.analog.com/en/index.html; ComponentLink2Description: Datasheet; ComponentLink2URL: http://www.analog.com/static/imported-files/data_sheets/AD8010.pdf; ComponentLink3Description: Package Specification; ComponentLink3URL: http://www.analog.com/static/imported-files/packages/PKG_PDF/SOIC_Narrow%20(R)/R_8.pdf
footprint ADI-R-8_N (SOIC, 8-Leads, Body 4.9x3.9mm, Pitch 1.27mm, IPC Medium Density)
footprint ADI-R-8_L (SOIC, 8-Leads, Body 4.9x3.9mm, Pitch 1.27mm, IPC High Density)
footprint ADI-R-8_M (SOIC, 8-Leads, Body 4.9x3.9mm, Pitch 1.27mm, IPC Low Density)
part A pins: 2 -IN (in), 3 +IN (in), 4 -VS (power), 6 OUT (out), 7 +VS (power)
part B pins: 1 NC, 5 NC, 8 NC

## AD8010ARZ-16
designator U?
Single Channel Operational Amplifier, 230 MHz BW, 800 V/us SR, Industrial, 16-pin SOIC (RW-16), Tube; Generic Part Number: AD8010; Manufacturer: Analog Devices; PartNumber: AD8010ARZ-16; Amplifiers Per Package: 1; Input Bias Current: 6uA; Input Offset Voltage: 5mV; Iq/Amp: 17mA; Small Signal Bandwidth: 230MHz; V Span Max: 12V; V Span Min: 9V; DatasheetVersion: Rev. B; PackageVersion: 032707-B; PackageReference: RW-16; PackageDescription: 16-Pin Standard Small Outline Package, Body 10.3 x 7.5 mm, Pitch 1.27 mm; Supplier 1: Digi-Key; Supplier Part Number 1: AD8010ARZ-16-ND; Slew Rate: 800V/us; Mounting Technology: Surface Mount; Code_JEDEC: MS-013-AA; ComponentLink1Description: Manufacturer URL; ComponentLink1URL: http://www.analog.com/en/index.html; ComponentLink2Description: Datasheet; ComponentLink2URL: http://www.analog.com/static/imported-files/data_sheets/AD8010.pdf; ComponentLink3Description: Package Specification; ComponentLink3URL: http://www.analog.com/static/imported-files/packages/PKG_PDF/SOIC_WIDE%20%28RW%29/RW_16.pdf
footprint ADI-RW-16_N (SOIC, 16-Leads, Body 10.3x7.5mm, Pitch 1.27mm,IPC Medium Density)
footprint ADI-RW-16_L (SOIC, 16-Leads, Body 10.3x7.5mm, Pitch 1.27mm, IPC High Density)
footprint ADI-RW-16_M (SOIC, 16-Leads, Body 10.3x7.5mm, Pitch 1.27mm, IPC Low Density)
part A pins: 3 -IN (in), 5 +IN (in), 7 -VS (power), 12 OUT (out), 14 +VS (power)
part B pins: 1 NC, 2 NC, 4 NC, 6 NC, 8 NC, 9 NC, 10 NC, 11 NC, 13 NC, 15 NC, 16 NC

## AD8010ARZ-16-REEL7
designator U?
Single Channel Operational Amplifier, 230 MHz BW, 800 V/us SR, Industrial, 16-pin SOIC (RW-16), Reel; Generic Part Number: AD8010; Manufacturer: Analog Devices; PartNumber: AD8010ARZ-16-REEL7; Amplifiers Per Package: 1; Input Bias Current: 6uA; Input Offset Voltage: 5mV; Iq/Amp: 17mA; Small Signal Bandwidth: 230MHz; V Span Max: 12V; V Span Min: 9V; DatasheetVersion: Rev. B; PackageVersion: 032707-B; PackageReference: RW-16; PackageDescription: 16-Pin Standard Small Outline Package, Body 10.3 x 7.5 mm, Pitch 1.27 mm; Supplier 1: Digi-Key; Supplier Part Number 1: AD8010ARZ-16-REEL7-ND; Packing: Reel; Slew Rate: 800V/us; Mounting Technology: Surface Mount; Code_JEDEC: MS-013-AA; ComponentLink1Description: Manufacturer URL; ComponentLink1URL: http://www.analog.com/en/index.html; ComponentLink2Description: Datasheet; ComponentLink2URL: http://www.analog.com/static/imported-files/data_sheets/AD8010.pdf; ComponentLink3Description: Package Specification; ComponentLink3URL: http://www.analog.com/static/imported-files/packages/PKG_PDF/SOIC_WIDE%20%28RW%29/RW_16.pdf
footprint ADI-RW-16_N (SOIC, 16-Leads, Body 10.3x7.5mm, Pitch 1.27mm,IPC Medium Density)
footprint ADI-RW-16_L (SOIC, 16-Leads, Body 10.3x7.5mm, Pitch 1.27mm, IPC High Density)
footprint ADI-RW-16_M (SOIC, 16-Leads, Body 10.3x7.5mm, Pitch 1.27mm, IPC Low Density)
part A pins: 3 -IN (in), 5 +IN (in), 7 -VS (power), 12 OUT (out), 14 +VS (power)
part B pins: 1 NC, 2 NC, 4 NC, 6 NC, 8 NC, 9 NC, 10 NC, 11 NC, 13 NC, 15 NC, 16 NC

## AD8011ANZ
designator U?
Single Channel Single-Supply Operation Operational Amplifier, 400 MHz BW, 3.5 KV/us SR, Industrial, 8-pin DIP (N-8), Tube; Generic Part Number: AD8011; Manufacturer: Analog Devices; PartNumber: AD8011ANZ; Amplifiers Per Package: 1; Input Bias Current: 5uA; Input Offset Voltage: 2mV; Iq/Amp: 1.3mA; Small Signal Bandwidth: 400MHz; V Span Max: 12V; V Span Min: 3V; DatasheetVersion: Rev. C; PackageVersion: 070606-A; PackageReference: N-8; PackageDescription: 8-Pin Plastic Dual In-Line Package, Row spacing 7.62 mm, Pitch 2.54 mm; Supplier 1: Digi-Key; Supplier Part Number 1: AD8011ANZ-ND; Supplier 2: Newark; Supplier Part Number 2: 19M0914; Slew Rate: 3.5KV/us; Mounting Technology: Through Hole; Code_JEDEC: MS-001; ComponentLink1Description: Manufacturer URL; ComponentLink1URL: http://www.analog.com/en/index.html; ComponentLink2Description: Datasheet; ComponentLink2URL: http://www.analog.com/static/imported-files/data_sheets/AD8011.pdf; ComponentLink3Description: Package Specification; ComponentLink3URL: http:/www.analog.com/static/imported-files/packages/PKG_PDF/PDIP(N)/N_8.pdf
footprint ADI-N-8 (DIP, 8-Leads, Body 9.59x6.6mm, Pitch 2.54mm)
part A pins: 2 -IN (in), 3 +IN (in), 4 -V (power), 6 OUT (out), 7 +V (power)
part B pins: 1 NC, 5 NC, 8 NC

## AD8011AR
designator U?
Single Channel Single-Supply Operation Operational Amplifier, 400 MHz BW, 3.5 KV/us SR, Industrial, 8-pin SOIC (R-8), Tube; Generic Part Number: AD8011; Manufacturer: Analog Devices; PartNumber: AD8011AR; Amplifiers Per Package: 1; Input Bias Current: 5uA; Input Offset Voltage: 2mV; Iq/Amp: 1.3mA; Small Signal Bandwidth: 400MHz; V Span Max: 12V; V Span Min: 3V; DatasheetVersion: Rev. C; PackageVersion: 060506-A; PackageReference: R-8; PackageDescription: 8-Pin Standard Small Outline Package, Body 3.9 x 4.9 mm, Pitch 1.27 mm; Supplier 1: Digi-Key; Supplier Part Number 1: AD8011AR-ND; Slew Rate: 3.5KV/us; Mounting Technology: Surface Mount; Code_JEDEC: MS-012-AA; ComponentLink1Description: Manufacturer URL; ComponentLink1URL: http://www.analog.com/en/index.html; ComponentLink2Description: Datasheet; ComponentLink2URL: http://www.analog.com/static/imported-files/data_sheets/AD8011.pdf; ComponentLink3Description: Package Specification; ComponentLink3URL: http://www.analog.com/static/imported-files/packages/PKG_PDF/SOIC_Narrow%20(R)/R_8.pdf
footprint ADI-R-8_N (SOIC, 8-Leads, Body 4.9x3.9mm, Pitch 1.27mm, IPC Medium Density)
footprint ADI-R-8_L (SOIC, 8-Leads, Body 4.9x3.9mm, Pitch 1.27mm, IPC High Density)
footprint ADI-R-8_M (SOIC, 8-Leads, Body 4.9x3.9mm, Pitch 1.27mm, IPC Low Density)
part A pins: 2 -IN (in), 3 +IN (in), 4 -V (power), 6 OUT (out), 7 +V (power)
part B pins: 1 NC, 5 NC, 8 NC

## AD8011ARZ
designator U?
Single Channel Single-Supply Operation Operational Amplifier, 400 MHz BW, 3.5 KV/us SR, Industrial, 8-pin SOIC (R-8), Tube; Generic Part Number: AD8011; Manufacturer: Analog Devices; PartNumber: AD8011ARZ; Amplifiers Per Package: 1; Input Bias Current: 5uA; Input Offset Voltage: 2mV; Iq/Amp: 1.3mA; Small Signal Bandwidth: 400MHz; V Span Max: 12V; V Span Min: 3V; DatasheetVersion: Rev. C; PackageVersion: 060506-A; PackageReference: R-8; PackageDescription: 8-Pin Standard Small Outline Package, Body 3.9 x 4.9 mm, Pitch 1.27 mm; Supplier 1: Digi-Key; Supplier Part Number 1: AD8011ARZ-ND; Supplier 2: Farnell; Supplier Part Number 2: 1651270; Supplier 3: Newark; Supplier Part Number 3: 19M8869; Slew Rate: 3.5KV/us; Mounting Technology: Surface Mount; Code_JEDEC: MS-012-AA; ComponentLink1Description: Manufacturer URL; ComponentLink1URL: http://www.analog.com/en/index.html; ComponentLink2Description: Datasheet; ComponentLink2URL: http://www.analog.com/static/imported-files/data_sheets/AD8011.pdf; ComponentLink3Description: Package Specification; ComponentLink3URL: http://www.analog.com/static/imported-files/packages/PKG_PDF/SOIC_Narrow%20(R)/R_8.pdf
footprint ADI-R-8_N (SOIC, 8-Leads, Body 4.9x3.9mm, Pitch 1.27mm, IPC Medium Density)
footprint ADI-R-8_L (SOIC, 8-Leads, Body 4.9x3.9mm, Pitch 1.27mm, IPC High Density)
footprint ADI-R-8_M (SOIC, 8-Leads, Body 4.9x3.9mm, Pitch 1.27mm, IPC Low Density)
part A pins: 2 -IN (in), 3 +IN (in), 4 -V (power), 6 OUT (out), 7 +V (power)
part B pins: 1 NC, 5 NC, 8 NC

## AD8011ARZ-REEL
designator U?
Single Channel Single-Supply Operation Operational Amplifier, 400 MHz BW, 3.5 KV/us SR, Industrial, 8-pin SOIC (R-8), Reel; Generic Part Number: AD8011; Manufacturer: Analog Devices; PartNumber: AD8011ARZ-REEL; Amplifiers Per Package: 1; Input Bias Current: 5uA; Input Offset Voltage: 2mV; Iq/Amp: 1.3mA; Small Signal Bandwidth: 400MHz; V Span Max: 12V; V Span Min: 3V; DatasheetVersion: Rev. C; PackageVersion: 060506-A; PackageReference: R-8; PackageDescription: 8-Pin Standard Small Outline Package, Body 3.9 x 4.9 mm, Pitch 1.27 mm; Supplier 1: Digi-Key; Supplier Part Number 1: AD8011ARZ-REEL-ND; Slew Rate: 3.5KV/us; Mounting Technology: Surface Mount; Code_JEDEC: MS-012-AA; ComponentLink1Description: Manufacturer URL; ComponentLink1URL: http://www.analog.com/en/index.html; ComponentLink2Description: Datasheet; ComponentLink2URL: http://www.analog.com/static/imported-files/data_sheets/AD8011.pdf; ComponentLink3Description: Package Specification; ComponentLink3URL: http://www.analog.com/static/imported-files/packages/PKG_PDF/SOIC_Narrow%20(R)/R_8.pdf
footprint ADI-R-8_N (SOIC, 8-Leads, Body 4.9x3.9mm, Pitch 1.27mm, IPC Medium Density)
footprint ADI-R-8_L (SOIC, 8-Leads, Body 4.9x3.9mm, Pitch 1.27mm, IPC High Density)
footprint ADI-R-8_M (SOIC, 8-Leads, Body 4.9x3.9mm, Pitch 1.27mm, IPC Low Density)
part A pins: 2 -IN (in), 3 +IN (in), 4 -V (power), 6 OUT (out), 7 +V (power)
part B pins: 1 NC, 5 NC, 8 NC

## AD8011ARZ-REEL7
designator U?
Single Channel Single-Supply Operation Operational Amplifier, 400 MHz BW, 3.5 KV/us SR, Industrial, 8-pin SOIC (R-8), Reel; Generic Part Number: AD8011; Manufacturer: Analog Devices; PartNumber: AD8011ARZ-REEL7; Amplifiers Per Package: 1; Input Bias Current: 5uA; Input Offset Voltage: 2mV; Iq/Amp: 1.3mA; Small Signal Bandwidth: 400MHz; V Span Max: 12V; V Span Min: 3V; DatasheetVersion: Rev. C; PackageVersion: 060506-A; PackageReference: R-8; PackageDescription: 8-Pin Standard Small Outline Package, Body 3.9 x 4.9 mm, Pitch 1.27 mm; Supplier 1: Digi-Key; Supplier Part Number 1: AD8011ARZ-REEL7TR-ND; Supplier 2: Digi-Key; Supplier Part Number 2: AD8011ARZ-REEL7CT-ND; Supplier 3: Digi-Key; Supplier Part Number 3: AD8011ARZ-REEL7DKR-ND; Slew Rate: 3.5KV/us; Mounting Technology: Surface Mount; Code_JEDEC: MS-012-AA; ComponentLink1Description: Manufacturer URL; ComponentLink1URL: http://www.analog.com/en/index.html; ComponentLink2Description: Datasheet; ComponentLink2URL: http://www.analog.com/static/imported-files/data_sheets/AD8011.pdf; ComponentLink3Description: Package Specification; ComponentLink3URL: http://www.analog.com/static/imported-files/packages/PKG_PDF/SOIC_Narrow%20(R)/R_8.pdf
footprint ADI-R-8_N (SOIC, 8-Leads, Body 4.9x3.9mm, Pitch 1.27mm, IPC Medium Density)
footprint ADI-R-8_L (SOIC, 8-Leads, Body 4.9x3.9mm, Pitch 1.27mm, IPC High Density)
footprint ADI-R-8_M (SOIC, 8-Leads, Body 4.9x3.9mm, Pitch 1.27mm, IPC Low Density)
part A pins: 2 -IN (in), 3 +IN (in), 4 -V (power), 6 OUT (out), 7 +V (power)
part B pins: 1 NC, 5 NC, 8 NC

## AD8012AR
designator U?
Double Channel Low Power Operational Amplifier, 350 MHz BW, 2.25 KV/us SR, Industrial, 8-pin SOIC (R-8), Tube; Generic Part Number: AD8012; Manufacturer: Analog Devices; PartNumber: AD8012AR; Amplifiers Per Package: 2; Input Bias Current: 3uA; Input Offset Voltage: 1mV; Iq/Amp: 900uA; Small Signal Bandwidth: 350MHz; V Span Max: 12V; V Span Min: 3V; DatasheetVersion: Rev. B; PackageVersion: 060506-A; PackageReference: R-8; PackageDescription: 8-Pin Standard Small Outline Package, Body 3.9 x 4.9 mm, Pitch 1.27 mm; Supplier 1: Digi-Key; Supplier Part Number 1: AD8012AR-ND; Packing: Tube; Slew Rate: 2.25KV/us; Mounting Technology: Surface Mount; Code_JEDEC: MS-012-AA; ComponentLink1Description: Manufacturer URL; ComponentLink1URL: http://www.analog.com/en/index.html; ComponentLink2Description: Datasheet; ComponentLink2URL: http://www.analog.com/static/imported-files/data_sheets/AD8012.pdf; ComponentLink3Description: Package Specification; ComponentLink3URL: http://www.analog.com/static/imported-files/packages/PKG_PDF/SOIC_Narrow%20(R)/R_8.pdf
footprint ADI-R-8_N (SOIC, 8-Leads, Body 4.9x3.9mm, Pitch 1.27mm, IPC Medium Density)
footprint ADI-R-8_L (SOIC, 8-Leads, Body 4.9x3.9mm, Pitch 1.27mm, IPC High Density)
footprint ADI-R-8_M (SOIC, 8-Leads, Body 4.9x3.9mm, Pitch 1.27mm, IPC Low Density)
pins on every part: 4 -VS (power), 8 +VS (power)
part A pins: 1 OUT 1 (out), 2 -IN 1 (in), 3 +IN 1 (in)
part B pins: 5 +IN 2 (in), 6 -IN 2 (in), 7 OUT 2 (out)

## AD8012AR-REEL
designator U?
Double Channel Low Power Operational Amplifier, 350 MHz BW, 2.25 KV/us SR, Industrial, 8-pin SOIC (R-8), Reel; Generic Part Number: AD8012; Manufacturer: Analog Devices; PartNumber: AD8012AR-REEL; Amplifiers Per Package: 2; Input Bias Current: 3uA; Input Offset Voltage: 1mV; Iq/Amp: 900uA; Small Signal Bandwidth: 350MHz; V Span Max: 12V; V Span Min: 3V; DatasheetVersion: Rev. B; PackageVersion: 060506-A; PackageReference: R-8; PackageDescription: 8-Pin Standard Small Outline Package, Body 3.9 x 4.9 mm, Pitch 1.27 mm; Supplier 1: Digi-Key; Supplier Part Number 1: AD8012AR-REEL-ND; Supplier 2: Newark; Supplier Part Number 2: 09B6348; Packing: Reel; Slew Rate: 2.25KV/us; Mounting Technology: Surface Mount; Code_JEDEC: MS-012-AA; ComponentLink1Description: Manufacturer URL; ComponentLink1URL: http://www.analog.com/en/index.html; ComponentLink2Description: Datasheet; ComponentLink2URL: http://www.analog.com/static/imported-files/data_sheets/AD8012.pdf; ComponentLink3Description: Package Specification; ComponentLink3URL: http://www.analog.com/static/imported-files/packages/PKG_PDF/SOIC_Narrow%20(R)/R_8.pdf
footprint ADI-R-8_N (SOIC, 8-Leads, Body 4.9x3.9mm, Pitch 1.27mm, IPC Medium Density)
footprint ADI-R-8_L (SOIC, 8-Leads, Body 4.9x3.9mm, Pitch 1.27mm, IPC High Density)
footprint ADI-R-8_M (SOIC, 8-Leads, Body 4.9x3.9mm, Pitch 1.27mm, IPC Low Density)
pins on every part: 4 -VS (power), 8 +VS (power)
part A pins: 1 OUT 1 (out), 2 -IN 1 (in), 3 +IN 1 (in)
part B pins: 5 +IN 2 (in), 6 -IN 2 (in), 7 OUT 2 (out)

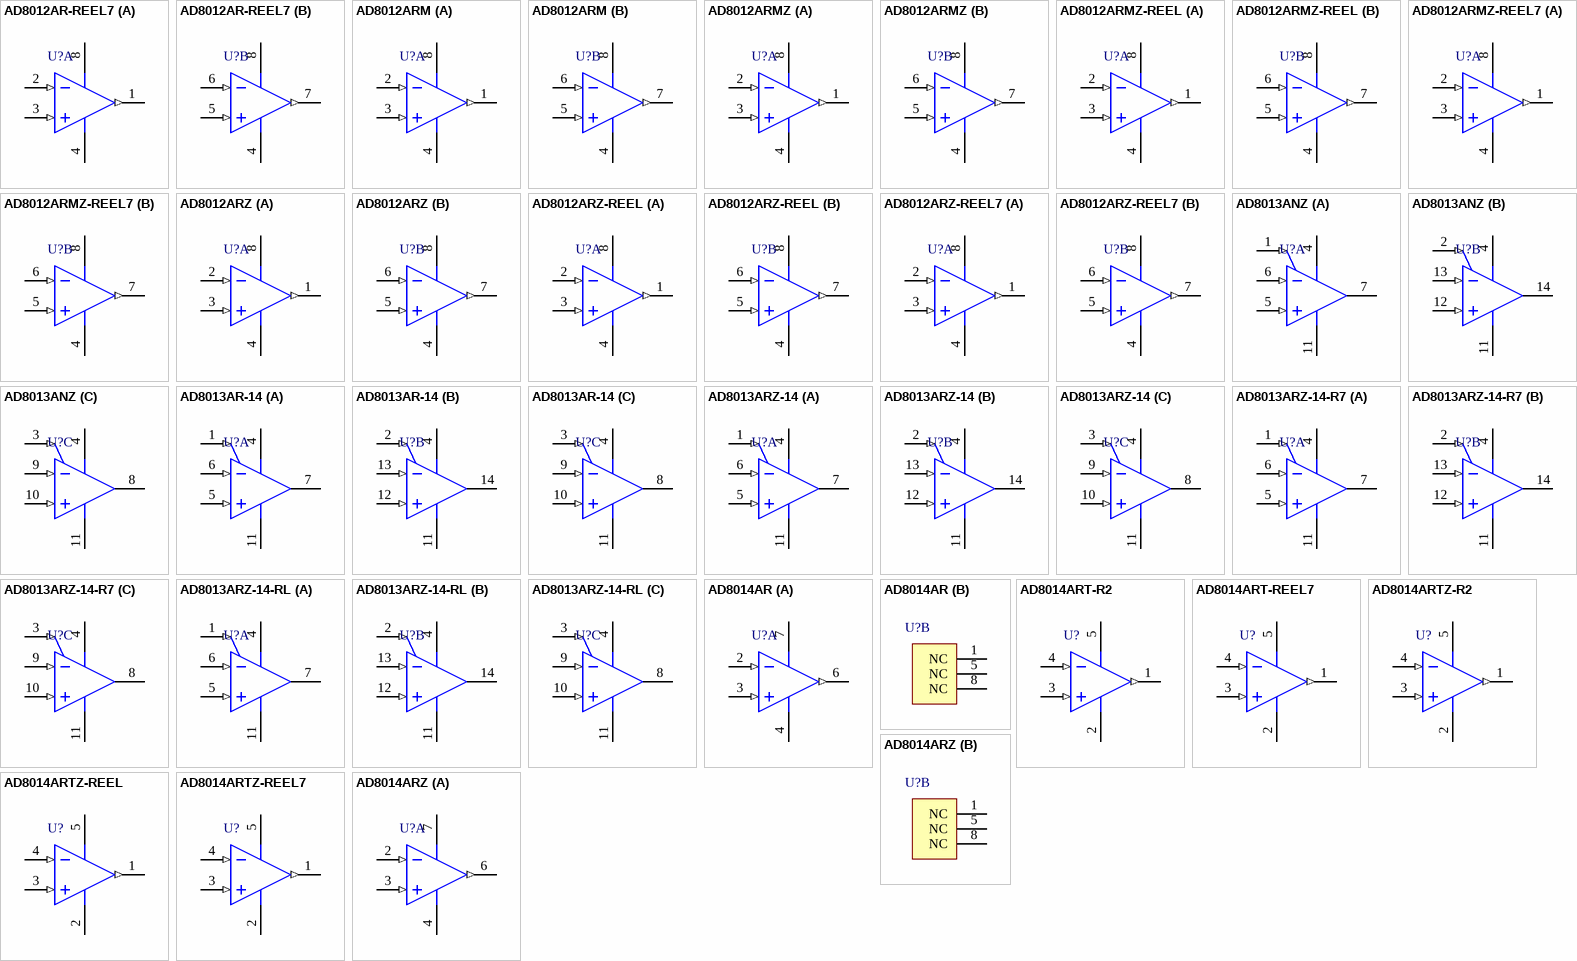
[diagram p19: symbols AD8012AR-REEL7 to AD8014ARZ]

## AD8012AR-REEL7
designator U?
Double Channel Low Power Operational Amplifier, 350 MHz BW, 2.25 KV/us SR, Industrial, 8-pin SOIC (R-8), Reel; Generic Part Number: AD8012; Manufacturer: Analog Devices; PartNumber: AD8012AR-REEL7; Amplifiers Per Package: 2; Input Bias Current: 3uA; Input Offset Voltage: 1mV; Iq/Amp: 900uA; Small Signal Bandwidth: 350MHz; V Span Max: 12V; V Span Min: 3V; DatasheetVersion: Rev. B; PackageVersion: 060506-A; PackageReference: R-8; PackageDescription: 8-Pin Standard Small Outline Package, Body 3.9 x 4.9 mm, Pitch 1.27 mm; Supplier 1: Digi-Key; Supplier Part Number 1: AD8012AR-REEL7-ND; Supplier 2: Newark; Supplier Part Number 2: 09B6349; Packing: Reel; Slew Rate: 2.25KV/us; Mounting Technology: Surface Mount; Code_JEDEC: MS-012-AA; ComponentLink1Description: Manufacturer URL; ComponentLink1URL: http://www.analog.com/en/index.html; ComponentLink2Description: Datasheet; ComponentLink2URL: http://www.analog.com/static/imported-files/data_sheets/AD8012.pdf; ComponentLink3Description: Package Specification; ComponentLink3URL: http://www.analog.com/static/imported-files/packages/PKG_PDF/SOIC_Narrow%20(R)/R_8.pdf
footprint ADI-R-8_N (SOIC, 8-Leads, Body 4.9x3.9mm, Pitch 1.27mm, IPC Medium Density)
footprint ADI-R-8_L (SOIC, 8-Leads, Body 4.9x3.9mm, Pitch 1.27mm, IPC High Density)
footprint ADI-R-8_M (SOIC, 8-Leads, Body 4.9x3.9mm, Pitch 1.27mm, IPC Low Density)
pins on every part: 4 -VS (power), 8 +VS (power)
part A pins: 1 OUT 1 (out), 2 -IN 1 (in), 3 +IN 1 (in)
part B pins: 5 +IN 2 (in), 6 -IN 2 (in), 7 OUT 2 (out)

## AD8012ARM
designator U?
Double Channel Low Power Operational Amplifier, 350 MHz BW, 2.25 KV/us SR, Industrial, 8-pin SOP (RM-8), Tube; Generic Part Number: AD8012; Manufacturer: Analog Devices; PartNumber: AD8012ARM; Amplifiers Per Package: 2; Input Bias Current: 3uA; Input Offset Voltage: 1mV; Iq/Amp: 900uA; Small Signal Bandwidth: 350MHz; V Span Max: 12V; V Span Min: 3V; DatasheetVersion: Rev. B; PackageReference: RM-8; PackageDescription: 8-Pin Mini Small Outline Package, Body 3 x 3 mm, Pitch 0.65 mm; Supplier 1: Digi-Key; Supplier Part Number 1: AD8012ARM-ND; Packing: Tube; Slew Rate: 2.25KV/us; Mounting Technology: Surface Mount; Code_JEDEC: MO-187-AA; ComponentLink1Description: Manufacturer URL; ComponentLink1URL: http://www.analog.com/en/index.html; ComponentLink2Description: Datasheet; ComponentLink2URL: http://www.analog.com/static/imported-files/data_sheets/AD8012.pdf; ComponentLink3Description: Package Specification; ComponentLink3URL: http://www.analog.com/static/imported-files/packages/PKG_PDF/MSOP%28RM%29/RM_8.pdf
footprint ADI-RM-8_N (SOP, 8-Leads, Body 3x3mm, Pitch 0.65mm, IPC Medium Density)
footprint ADI-RM-8_L (SOP, 8-Leads, Body 3x3mm, Pitch 0.65mm, IPC High Density)
footprint ADI-RM-8_M (SOP, 8-Leads, Body 3x3mm, Pitch 0.65mm, IPC Low Density)
pins on every part: 4 -VS (power), 8 +VS (power)
part A pins: 1 OUT 1 (out), 2 -IN 1 (in), 3 +IN 1 (in)
part B pins: 5 +IN 2 (in), 6 -IN 2 (in), 7 OUT 2 (out)